# Altium footprint library DOCK_ESP32_v1.0.PcbLib: 35 footprints (part 2 of 3)
Each footprint in its own frame and in the unit in brackets; x right, y up, seen from the top. Pads: shape width x height; smd on the part's side, far side on the other; paste and mask are expansions set on the pad; w line width, h text height; cw(c..) or ccw(c..) is an arc to the next point about the centre after c.
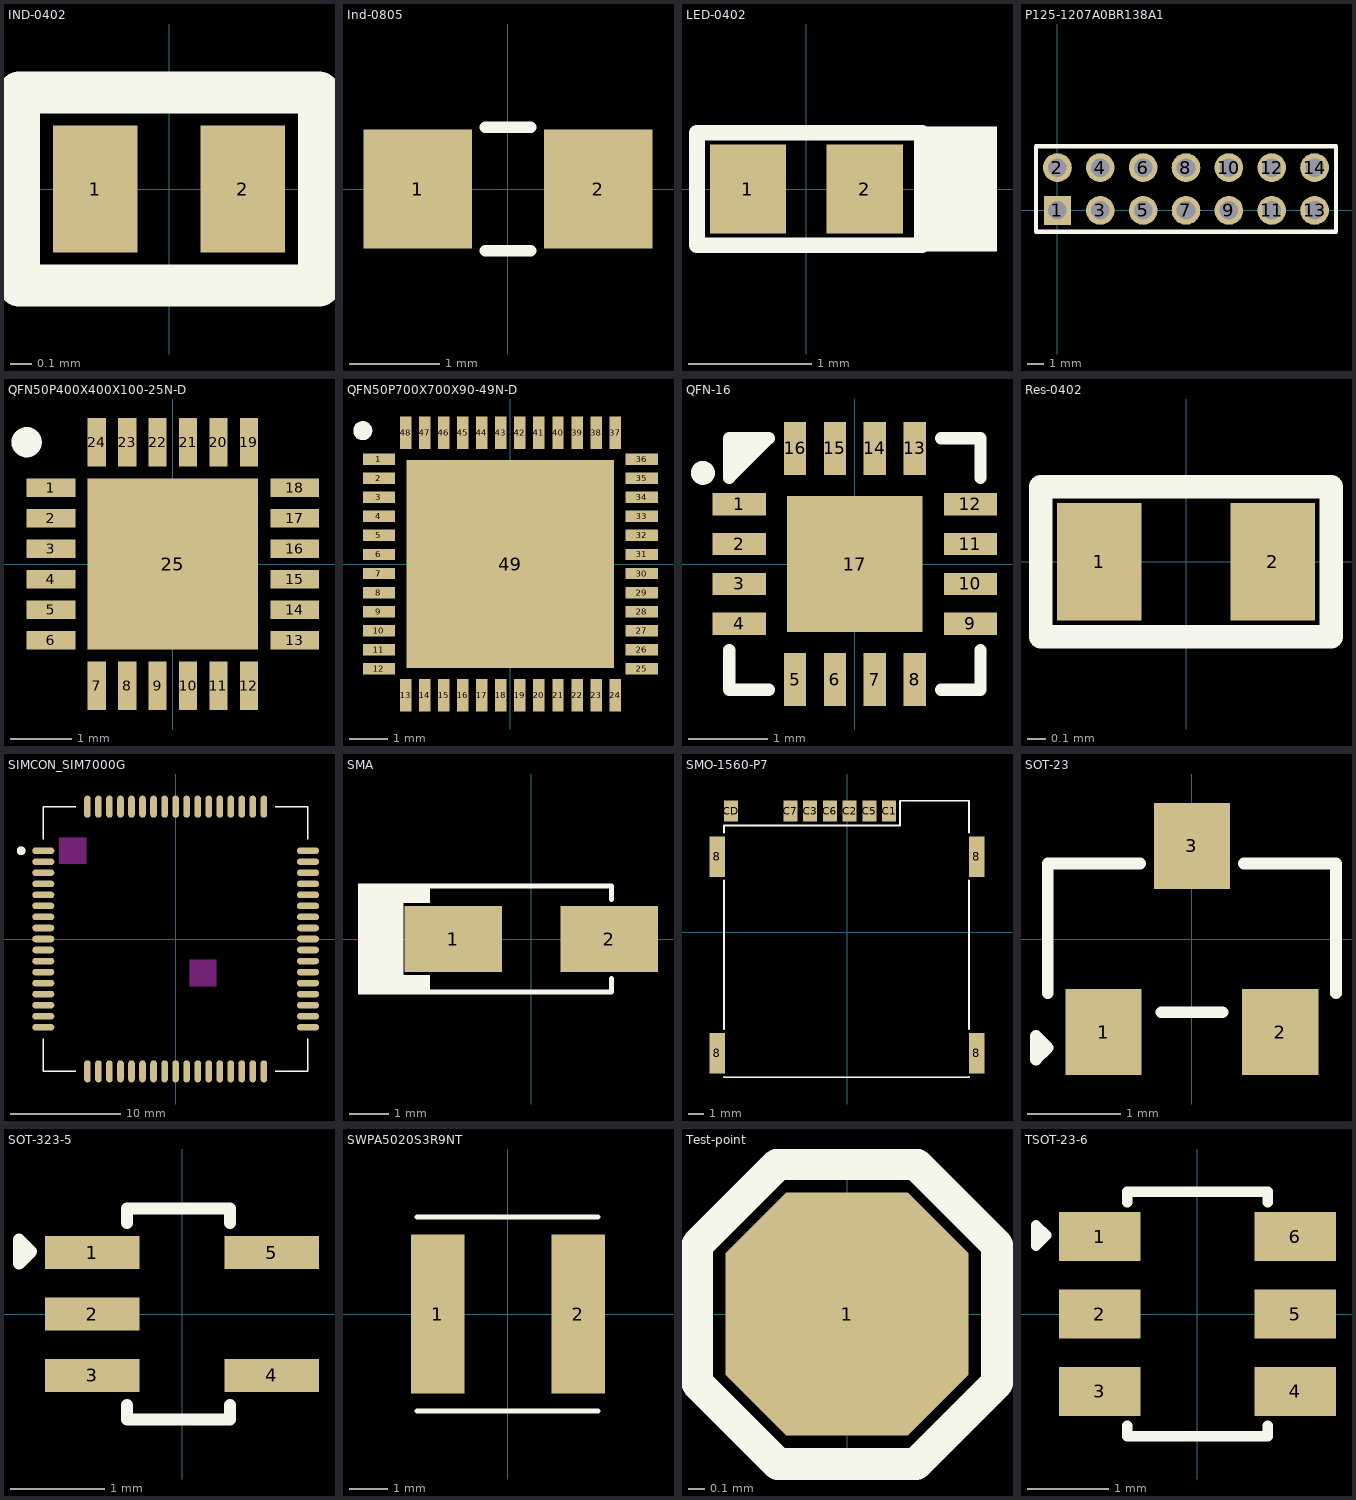
[diagram p1: the footprints below, top view; thin cyan lines are the x and y axes]

## IND-0402 [mm]
height 8.77
pads (2):
  rect 0.4x0.6 smd: 1(-0.35,0) 2(0.35,0)
Top Overlay:
  lines w0.2: -0.711,-0.457 -0.711,0.457 -0.305,0.457 0.711,0.457 0.711,-0.457 -0.305,-0.457 -0.711,-0.457
3D body "User Library-d0402h025.step": height 0.25, standoff 0, extent -0.5,-0.25 0.5,0.25

## Ind-0805 [mm] "Inductor 0805"
height 8.77
pads (2):
  rect 1.2x1.32 smd: 1(-1,0) 2(1,0)
Top Overlay:
  lines w0.127: -0.254,-0.686 0.254,-0.686 ; -0.254,0.686 0.254,0.686
3D body "45637.stp": height 0.47, standoff -0.03, extent -1,-0.625 1,0.625

## LED-0402 [mm]
height 8.77
pads (2):
  rect 0.62x0.72 smd: 1(-0.475,0) 2(0.475,0)
Top Overlay:
  rectangle: 0.94,-0.508 1.549,0.508
  lines w0.127: -0.889,-0.457 -0.889,0.457 0.94,0.457 0.94,-0.457 -0.889,-0.457
3D body "User Library-LED-0402.step": height 0.45, standoff 0, extent -0.505,-0.25 0.505,0.25

## P125-1207A0BR138A1 [mm]
height 8.77
pads (14):
  rect 1.6x1.7 hole 1.1 paste-2539.97 mask+0.05: 1(0,0)
  round 1.7 hole 1.1 paste-2539.97 mask+0.05: 2(-0.001,2.54) 3(2.539,0) 4(2.539,2.54) 5(5.079,0) 6(5.079,2.54) 7(7.619,0) 8(7.619,2.54) 9(10.159,0) 10(10.159,2.54) 11(12.699,0) 12(12.699,2.54) 13(15.239,0) 14(15.239,2.54)
Top Overlay:
  lines w0.254: -1.27,3.81 -1.27,-1.27 16.51,-1.27 16.51,3.81 -1.27,3.81 ; -1.27,3.81 -1.27,3.81
3D body "3D_PCB1_2026-04-191.step": height 9.35, standoff -2.8, extent -1.271,-1.27 16.51,3.81

## QFN50P400X400X100-25N-D [mm]
pads (25):
  rect 0.8x0.3 smd: 1(-2,1.25) 2(-2,0.75) 3(-2,0.25) 4(-2,-0.25) 5(-2,-0.75) 6(-2,-1.25) 13(2,-1.25) 14(2,-0.75) 15(2,-0.25) 16(2,0.25) 17(2,0.75) 18(2,1.25)
  rect 0.3x0.8 smd: 7(-1.25,-2) 8(-0.75,-2) 9(-0.25,-2) 10(0.25,-2) 11(0.75,-2) 12(1.25,-2) 19(1.25,2) 20(0.75,2) 21(0.25,2) 22(-0.25,2) 23(-0.75,2) 24(-1.25,2)
  rect 2.8x2.8 smd: 25(0,0)
Top Overlay:
  circle w0.25: c-2.4,2 r0.125
3D body "TPS25740ARGER.stp": height 1, standoff 0, extent -2,-2 2,2

## QFN50P700X700X90-49N-D [mm]
height 8.77
pads (49):
  rect 0.85x0.3 smd: 1(-3.45,2.75) 2(-3.45,2.25) 3(-3.45,1.75) 4(-3.45,1.25) 5(-3.45,0.75) 6(-3.45,0.25) 7(-3.45,-0.25) 8(-3.45,-0.75) 9(-3.45,-1.25) 10(-3.45,-1.75) 11(-3.45,-2.25) 12(-3.45,-2.75) 25(3.45,-2.75) 26(3.45,-2.25) 27(3.45,-1.75) 28(3.45,-1.25) 29(3.45,-0.75) 30(3.45,-0.25) 31(3.45,0.25) 32(3.45,0.75) 33(3.45,1.25) 34(3.45,1.75) 35(3.45,2.25) 36(3.45,2.75)
  rect 0.3x0.85 smd: 13(-2.75,-3.45) 14(-2.25,-3.45) 15(-1.75,-3.45) 16(-1.25,-3.45) 17(-0.75,-3.45) 18(-0.25,-3.45) 19(0.25,-3.45) 20(0.75,-3.45) 21(1.25,-3.45) 22(1.75,-3.45) 23(2.25,-3.45) 24(2.75,-3.45) 37(2.75,3.45) 38(2.25,3.45) 39(1.75,3.45) 40(1.25,3.45) 41(0.75,3.45) 42(0.25,3.45) 43(-0.25,3.45) 44(-0.75,3.45) 45(-1.25,3.45) 46(-1.75,3.45) 47(-2.25,3.45) 48(-2.75,3.45)
  rect 5.45x5.45 smd: 49(0,0)
Top Overlay:
  circle w0.25: c-3.875,3.5 r0.125
3D body "EFR32MG12P432F1024GM48-C.stp": height 0.9, standoff 0, extent -3.55,-3.55 3.55,3.55

## QFN-16 [mm]
pads (17):
  rect 0.665x0.28 smd paste-100 mask+0.051: 1(-1.45,0.75) 2(-1.45,0.25) 3(-1.45,-0.25) 4(-1.45,-0.75) 9(1.45,-0.75) 10(1.45,-0.25) 11(1.45,0.25) 12(1.45,0.75)
  rect 0.28x0.665 smd paste-100 mask+0.051: 5(-0.75,-1.45) 6(-0.25,-1.45) 7(0.25,-1.45) 8(0.75,-1.45) 13(0.75,1.45) 14(0.25,1.45) 15(-0.25,1.45) 16(-0.75,1.45)
  rect 1.7x1.7 smd paste-100 mask+0.051: 17(0,0)
Top Overlay:
  circle w0.15: c-1.905,1.143 r0.075
  region: -1.576,1.524 -1.143,1.524 -1.576,1.143
  lines w0.152: -1.576,-1.08 -1.576,-1.576 -1.08,-1.576 ; 1.08,-1.576 1.576,-1.576 1.576,-1.08 ; 1.08,1.576 1.576,1.576 1.576,1.08 ; -1.576,1.08 -1.576,1.576 -1.08,1.576 -1.576,1.08
Top Paste:
  region: -0.89,1.118 -0.61,1.118 -0.61,1.783 -0.89,1.783
  region: -0.39,1.118 -0.11,1.118 -0.11,1.783 -0.39,1.783
  region: 0.11,1.118 0.39,1.118 0.39,1.783 0.11,1.783
  region: 0.61,1.118 0.89,1.118 0.89,1.783 0.61,1.783
  region: 1.783,0.89 1.118,0.89 1.118,0.61 1.783,0.61
  region: 1.783,0.39 1.118,0.39 1.118,0.11 1.783,0.11
  region: 1.783,-0.11 1.118,-0.11 1.118,-0.39 1.783,-0.39
  region: 1.783,-0.61 1.118,-0.61 1.118,-0.89 1.783,-0.89
  region: 0.61,-1.783 0.89,-1.783 0.89,-1.118 0.61,-1.118
  region: 0.11,-1.783 0.39,-1.783 0.39,-1.118 0.11,-1.118
  region: -0.39,-1.783 -0.11,-1.783 -0.11,-1.118 -0.39,-1.118
  region: -0.89,-1.783 -0.61,-1.783 -0.61,-1.118 -0.89,-1.118
  region: -1.783,-0.61 -1.118,-0.61 -1.118,-0.89 -1.783,-0.89
  region: -1.783,-0.11 -1.118,-0.11 -1.118,-0.39 -1.783,-0.39
  region: -1.783,0.39 -1.118,0.39 -1.118,0.11 -1.783,0.11
  region: -1.783,0.89 -1.118,0.89 -1.118,0.61 -1.783,0.61
  region: 0.7,0.7 0.7,-0.7 -0.7,-0.7 -0.7,0.7
3D body "3D_PCB1_2026-05-21.step": height 0.76, standoff 0, extent -1.485,-1.506 1.535,1.514

## Res-0402 [mil]
height 345.28
pads (2):
  rect 18x25 smd mask+2.17: 1(-18.5,0) 2(18.5,0)
Top Overlay:
  lines w0.13: -32,-17 32,-17
  lines w5: -31,-16 31,-16 31,16 -31,16 -31,-16
3D body "User Library-RES_1005-0402.step": height 16.14, standoff 0, extent -22.63,-10.82 22.64,10.83

## SIMCON_SIM7000G [mm]
height 8.77
pads (68):
  oval 2x0.6 smd: 1(-12,8) 2(-12,7) 3(-12,6) 4(-12,5) 5(-12,4) 6(-12,3) 7(-12,2) 8(-12,1) 9(-12,0) 10(-12,-1) 11(-12,-2) 12(-12,-3) 13(-12,-4) 14(-12,-5) 15(-12,-6) 16(-12,-7) 17(-12,-8) 35(12,-8) 36(12,-7) 37(12,-6) 38(12,-5) 39(12,-4) 40(12,-3) 41(12,-2) 42(12,-1) 43(12,0) 44(12,1) 45(12,2) 46(12,3) 47(12,4) 48(12,5) 49(12,6) 50(12,7) 51(12,8)
  oval 0.6x2 smd: 18(-8,-12) 19(-7,-12) 20(-6,-12) 21(-5,-12) 22(-4,-12) 23(-3,-12) 24(-2,-12) 25(-1,-12) 26(0,-12) 27(1,-12) 28(2,-12) 29(3,-12) 30(4,-12) 31(5,-12) 32(6,-12) 33(7,-12) 34(8,-12) 52(8,12) 53(7,12) 54(6,12) 55(5,12) 56(4,12) 57(3,12) 58(2,12) 59(1,12) 60(0,12) 61(-1,12) 62(-2,12) 63(-3,12) 64(-4,12) 65(-5,12) 66(-6,12) 67(-7,12) 68(-8,12)
Top Overlay:
  circle w0.4: c-14,8 r0.2
  lines w0.127: -12,-9.05 -12,-12 -9.05,-12 ; -12,9.05 -12,12 -9.05,12 ; 9.05,-12 12,-12 12,-9.05 ; 9.05,12 12,12 12,9.05
Keep-Out Layer:
  region: -8.119,6.806 -10.529,6.806 -10.529,9.2 -8.119,9.2
  region: 3.7,-4.305 1.301,-4.305 1.301,-1.9 3.7,-1.9
3D body "SIM7000E--3DModel-STEP-56544.STEP": height 2.8, standoff 0, extent -12,-12 12,12

## SMA [mm]
height 8.77
pads (2):
  rect 2.5x1.7 smd: 1(-2,0) 2(2,0)
Top Overlay:
  rectangle: -3.3,-1.422 -2.596,-0.924
  rectangle: -4.445,-1.422 -3.278,1.422
  rectangle: -3.3,0.924 -2.596,1.422
  lines w0.127: -2.658,-1.358 2.061,-1.358 2.061,-1.012 ; -2.658,1.358 2.061,1.358 2.061,1.012
3D body "User Library-DO-214AC SMA.step": height 2.4, standoff 0, extent -2.6,-1.3 2.6,1.3

## SMO-1560-P7 [mm]
height 8.77
pads (11):
  rect 1x2.61 smd paste+0 mask+0.051: 8(-8.34,4.855) 8(-8.34,-7.775) 8(8.34,-7.775) 8(8.34,4.855)
  rect 0.9x1.35 smd paste+0 mask+0.051: C1(2.715,7.775) C2(0.175,7.775) C3(-2.365,7.775) C5(1.445,7.775) C6(-1.095,7.775) C7(-3.635,7.775) CD(-7.445,7.775)
Top Overlay:
  lines w0.127: -7.895,-9.311 -7.895,-9.33 7.855,-9.33 7.855,-9.311 ; -7.895,-6.239 -7.895,3.319 ; -7.895,6.391 -7.895,6.869 3.4,6.869 ; 3.4,6.9 3.4,8.45 7.855,8.45 7.855,6.391 ; 7.855,-6.239 7.855,3.319
3D body "C961688.step": height 1.55, standoff 0, extent -8.375,-9.299 8.375,7.871

## SOT-23 [mm] "TRANS NPN 40V 0.6A SOT23"
height 8.77
pads (3):
  rect 0.82x0.92 smd: 1(-0.95,-1) 2(0.95,-1) 3(0,1)
Top Overlay:
  lines w0.127: -1.549,-0.584 -1.549,0.813 -0.559,0.813 ; -0.33,-0.787 0.33,-0.787 ; 0.559,0.813 1.549,0.813 1.549,-0.584 ; -1.676,-1.295 -1.676,-1.041 -1.549,-1.168 -1.676,-1.295
3D body "CircuitWorks-SOT-23.step": height 1.05, standoff -0.05, extent -1.5,-1.25 1.5,1.25

## SOT-323-5 [mm]
height 8.77
pads (5):
  rect 1x0.35 smd: 1(-0.95,0.65) 2(-0.95,0) 3(-0.95,-0.65) 4(0.95,-0.65) 5(0.95,0.65)
Top Overlay:
  lines w0.127: -0.584,-0.965 -0.584,-1.118 0.508,-1.118 0.508,-0.965 ; -0.584,0.965 -0.584,1.118 0.508,1.118 0.508,0.965 ; -1.727,0.533 -1.727,0.787 -1.6,0.66 -1.727,0.533
3D body "User Library-SOT-323-5L.step": height 1, standoff 0, extent -1.051,-1.05 1.051,1.05

## SWPA5020S3R9NT [mm]
height 8.77
pads (2):
  rect 1.4x4.2 smd: 1(-1.85,0) 2(1.85,0)
Top Overlay:
  lines w0.127: -2.398,-2.551 2.377,-2.551 ; -2.398,2.551 2.377,2.551
3D body "SWPA5020S3R9NT.STEP": height 2.12, standoff 0, extent -2.51,-2.5 2.51,2.5

## Test-point [mil]
height 345.28
pads (1):
  oct 60x60 smd: 1(0,0)
Top Overlay:
  lines w7.87: -37,-17 -17,-37 17,-37 37,-17 37,17 17,37 -17,37 -37,17 -37,-17

## TSOT-23-6 [mm]
height 8.77
pads (6):
  rect 1x0.6 smd: 1(-1.2,0.95) 2(-1.2,0) 3(-1.2,-0.95) 4(1.2,-0.95) 5(1.2,0) 6(1.2,0.95)
Top Overlay:
  lines w0.127: -0.864,-1.372 -0.864,-1.499 0.864,-1.499 0.864,-1.372 ; -0.864,1.372 -0.864,1.499 0.864,1.499 0.864,1.372 ; -1.981,0.838 -1.854,0.965 -1.981,1.092 -1.981,0.838
3D body "User Library-TSOT-23-6(S6).step": height 1, standoff 0, extent -1.412,-1.45 1.412,1.45